# Altium schematic symbol library 88E1111-TFBGA117.SchLib: 1 symbol
Pins are listed as number, name and electrical type; pins without a type are passive.

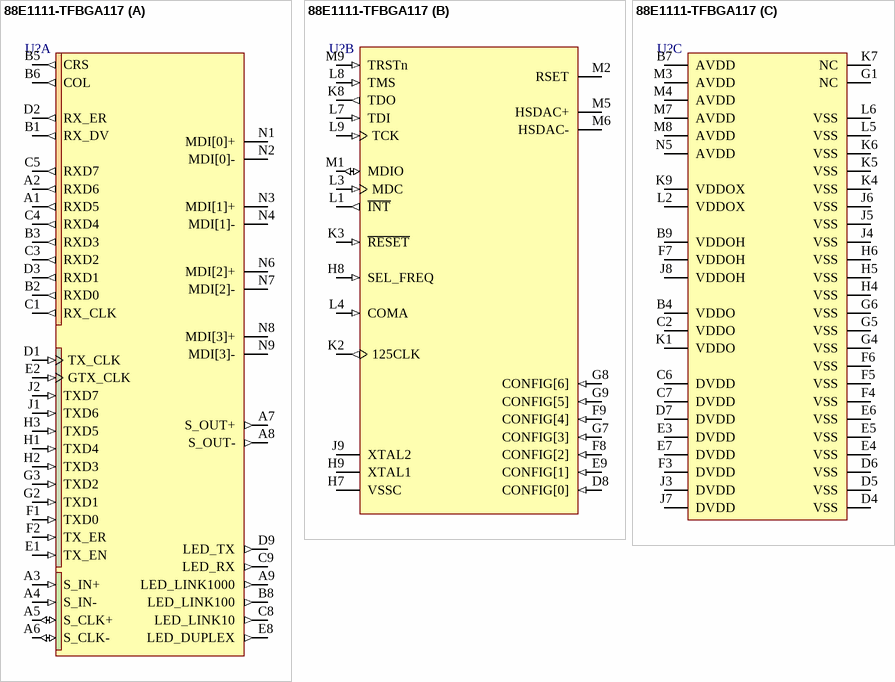
[diagram p0: symbol 88E1111-TFBGA117]

## 88E1111-TFBGA117
designator U?  (value not drawn)
part A pins: A1 RXD5 (out), A2 RXD6 (out), A3 S_IN+ (in), A4 S_IN- (in), A5 S_CLK+ (io), A6 S_CLK- (io), A7 S_OUT+ (out), A8 S_OUT- (out), A9 LED_LINK1000 (out), B1 RX_DV (out), B2 RXD0 (out), B3 RXD3 (out), B5 CRS (out), B6 COL (out), B8 LED_LINK100 (out), C1 RX_CLK (out), C3 RXD2 (out), C4 RXD4 (out), C5 RXD7 (out), C8 LED_LINK10 (out), C9 LED_RX (out), D1 TX_CLK (in), D2 RX_ER (out), D3 RXD1 (out), D9 LED_TX (out), E1 TX_EN (in), E2 GTX_CLK (in), E8 LED_DUPLEX (out), F1 TXD0 (in), F2 TX_ER (in), G2 TXD1 (in), G3 TXD2 (in), H1 TXD4 (in), H2 TXD3 (in), H3 TXD5 (in), J1 TXD6 (in), J2 TXD7 (in), N1 MDI[0]+, N2 MDI[0]-, N3 MDI[1]+, N4 MDI[1]-, N6 MDI[2]+, N7 MDI[2]-, N8 MDI[3]+, N9 MDI[3]-
part B pins: D8 CONFIG[0] (in), E9 CONFIG[1] (in), F8 CONFIG[2] (in), F9 CONFIG[4] (in), G7 CONFIG[3] (in), G8 CONFIG[6] (in), G9 CONFIG[5] (in), H7 VSSC (power), H8 SEL_FREQ (in), H9 XTAL1, J9 XTAL2, K2 125CLK (out), K3 ~{RESET} (in), K8 TDO (out), L1 ~{INT} (out), L3 MDC (in), L4 COMA (in), L7 TDI (in), L8 TMS (in), L9 TCK (in), M1 MDIO (io), M2 RSET, M5 HSDAC+, M6 HSDAC-, M9 TRSTn (in)
part C pins: B4 VDDO (power), B7 AVDD (power), B9 VDDOH (power), C2 VDDO (power), C6 DVDD (power), C7 DVDD (power), D4 VSS (power), D5 VSS (power), D6 VSS (power), D7 DVDD (power), E3 DVDD (power), E4 VSS (power), E5 VSS (power), E6 VSS (power), E7 DVDD (power), F3 DVDD (power), F4 VSS (power), F5 VSS (power), F6 VSS (power), F7 VDDOH (power), G1 NC, G4 VSS (power), G5 VSS (power), G6 VSS (power), H4 VSS (power), H5 VSS (power), H6 VSS (power), J3 DVDD (power), J4 VSS (power), J5 VSS (power), J6 VSS (power), J7 DVDD (power), J8 VDDOH (power), K1 VDDO (power), K4 VSS (power), K5 VSS (power), K6 VSS (power), K7 NC, K9 VDDOX (power), L2 VDDOX (power), L5 VSS (power), L6 VSS (power), M3 AVDD (power), M4 AVDD (power), M7 AVDD (power), M8 AVDD (power), N5 AVDD (power)